# EAGLE library part UD2-3NUN-L (library UD2-3NUN-L)
KEMET, UD2, Relays, Signal, 3 V, 220 V, 250 VAC, 1 A, 100 mOhms, 1 GOhms, 10.6mm, 6.5mm, 6mm Source: Datasheet <https://content.kemet.com/datasheets/KEM_R7005_UC2_UD2.pdf>
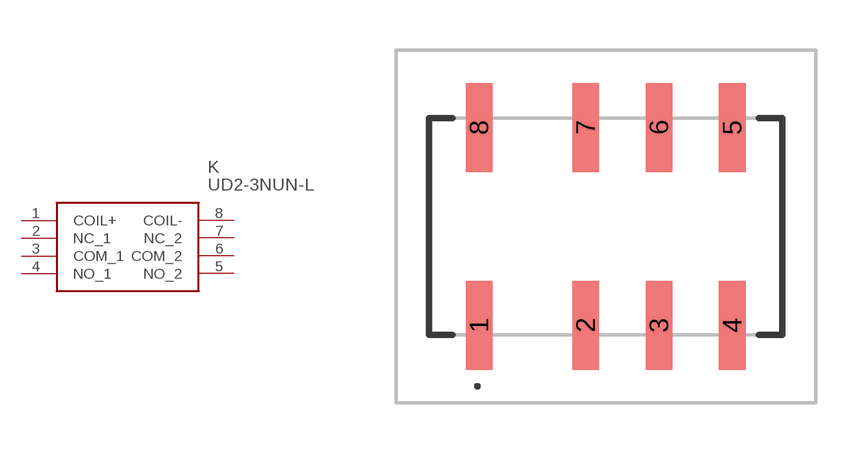
[diagram p0: symbol with the pads of UD23NUNL; footprint UD23NUNL]

Designator prefix K

## UD2-3NUN-L (Description: KEMET, UD2, Relays, Signal, 3 V, 220 V, 250 VAC, 1 A, 100 mOhms, 1 GOhms, 10.6mm, 6.5mm, 6mm; Height: 6mm; Manufacturer_Name: KEMET; Manufacturer_Part_Number: UD2-3NUN-L; Mouser_Part_Number: 80-UD2-3NUN-L; Mouser_Price-Stock: https://www.mouser.co.uk/ProductDetail/KEMET/UD2-3NUN-L?qs=Mg2Do3ryY8vvp%2Ff1QhaKig%3D%3D)  [UD23NUNL]
1  COIL+
2  NC_1
3  COM_1
4  NO_1
5  NO_2
6  COM_2
7  NC_2
8  COIL-

## Footprint UD23NUNL (pad centres in mm)
UD2-3NUN-L-1
smd 0.8 x 2.66: 1 -3.8,-2.97; 2 -0.6,-2.97; 3 1.6,-2.97; 4 3.8,-2.97; 5 3.8,2.97; 6 1.6,2.97; 7 -0.6,2.97; 8 -3.8,2.97